# Altium schematic symbol library SN74LV138APWR.SchLib: 1 symbol
Pins are listed as number, name and electrical type; pins without a type are passive.

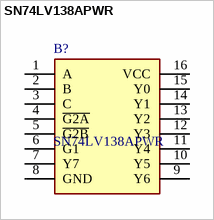
[diagram p0: symbol SN74LV138APWR]

## SN74LV138APWR
designator B?
Texas Instruments SN74LV138APWR, Decoder, Demultiplexer, 1-of-8, Inverting, 2  5.5 V, 16-Pin TSSOP; Geometry.Height: 1.2mm; Mouser Part Number: 595-SN74LV138APWR; Mouser Price/Stock: https://www.mouser.co.uk/ProductDetail/Texas-Instruments/SN74LV138APWR?qs=gqbMQSs93zM7bjlV3MhXvw%3D%3D; Manufacturer_Name: Texas Instruments; Manufacturer_Part_Number: SN74LV138APWR; Datasheet Link: http://www.ti.com/lit/gpn/sn74lv138a
footprint SOP65P640X120-16N
pins: 1 A, 2 B, 3 C, 4 ~{G2A}, 5 ~{G2B}, 6 G1, 7 Y7, 8 GND, 9 Y6, 10 Y5, 11 Y4, 12 Y3, 13 Y2, 14 Y1, 15 Y0, 16 VCC